# Altium integrated library Maxim Analog Filters.IntLib: 555 symbols (part 3 of 26)
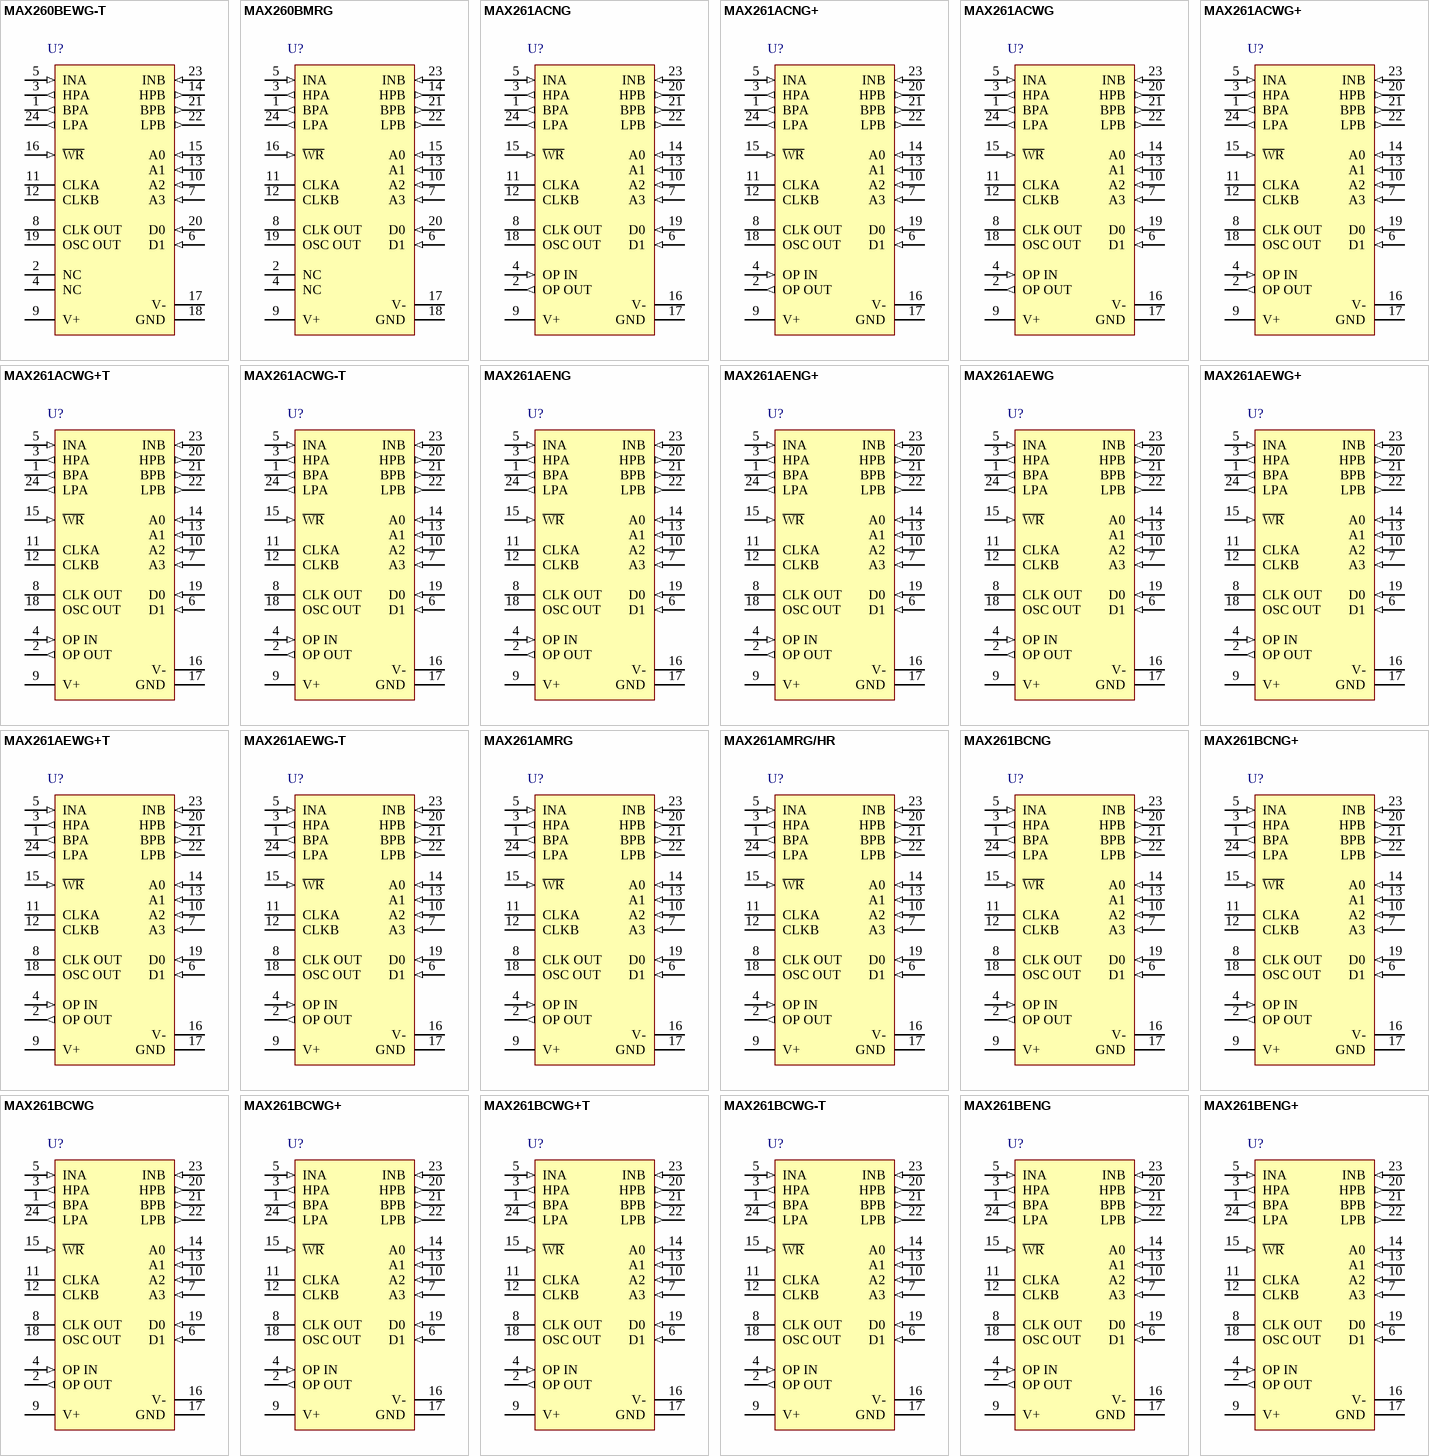
[diagram p19: symbols MAX260BEWG-T to MAX261BENG+]

## MAX261AMRG
designator U?
Universal Switched Capacitor Filter, uP Bus Programmable, -55 to 125 degC, 24-Pin DIP (R24-4); Generic Part Number: MAX261; PartNumber: MAX261AMRG; Filter Sections: 2; Program Method: uP Bus; DatasheetVersion: Rev. 2; PackageVersion: Rev. B, 05/2011; PackageReference: R24-4; PackageDescription: 24-Pin Ceramic Dual-In-Line, Narrow (0.3in) (R24-4), Body 32.51 x 6.73 mm, Pitch 2.54 mm; Supplier 1: Mouser; Supplier Part Number 1: N/A; Filter Characteristic: Programmable; Filter Class: Switched Cap; Filter Type: Universal; Order Per Filter Section: 2; Mounting Technology: Through Hole; ComponentLink1Description: Manufacturer URL; ComponentLink1URL: http://www.maximintegrated.com/; ComponentLink2Description: Datasheet; ComponentLink2URL: http://datasheets.maximintegrated.com/en/ds/MAX260-MAX262.pdf; ComponentLink3Description: Package Specification; ComponentLink3URL: http://pdfserv.maximintegrated.com/package_dwgs/21-0045.PDF
footprint MAXM-R24-4 (DIP, 24-Leads, Body 32.51x6.73mm, Pitch 2.54mm)
pins: 1 BPA (out) "Bandpass output", 2 OP OUT (out) "Output of uncommitted op amp on MAX261/MAX262 only. Pin 2 is anoconnect on the MAX260", 3 HPA (out) "Highpass/notch/allpass output", 4 OP IN (in) "Inverting input of uncommitted op amp on MAX261/MAX262 only (noninverting input is internally connected to ground). Pin4 is anoconnect on the MAX260", 5 INA (in) "Filter input", 6 D1 (in) "Data input for f0 and Q programming", 7 A3 (in) "Address input for f0 and Q input data locations", 8 CLK OUT "Clock output for crystal and R-C oscillator operation", 9 V+ (power) "Positive supply voltage", 10 A2 (in) "Address input for f0 and Q input data locations", 11 CLKA "Input to the oscillator and clock input to section A. This clock is internally divided by 2.", 12 CLKB "Clock input to filter B. This clock is internally divided by 2.", 13 A1 (in) "Address input for f0 and Q input data locations", 14 A0 (in) "Address input for f0 and Q input data locations", 15 ~{WR} (in) "Write enable input", 16 V- (power) "Negative supply voltage", 17 GND (power) "Analog Ground. Connect to the system ground for dual supply operation or mid-supply for single supply operation. GND should be well bypassed in single supply applications.", 18 OSC OUT "Connects to crystal or R-C for self-clocked operation", 19 D0 (in) "Data input for f0 and Q programming", 20 HPB (out) "Highpass/notch/allpass output", 21 BPB (out) "Bandpass output", 22 LPB (out) "Lowpass output", 23 INB (in) "Filter input", 24 LPA (out) "Lowpass output"

## MAX261AMRG/HR
designator U?
Universal Switched Capacitor Filter, uP Bus Programmable, -55 to 125 degC, 24-Pin DIP (R24-4); Generic Part Number: MAX261; PartNumber: MAX261AMRG/HR; Filter Sections: 2; Program Method: uP Bus; DatasheetVersion: Rev. 2; PackageVersion: Rev. B, 05/2011; PackageReference: R24-4; PackageDescription: 24-Pin Ceramic Dual-In-Line, Narrow (0.3in) (R24-4), Body 32.51 x 6.73 mm, Pitch 2.54 mm; Supplier 1: Mouser; Supplier Part Number 1: N/A; Filter Characteristic: Programmable; Filter Class: Switched Cap; Filter Type: Universal; Order Per Filter Section: 2; Mounting Technology: Through Hole; ComponentLink1Description: Manufacturer URL; ComponentLink1URL: http://www.maximintegrated.com/; ComponentLink2Description: Datasheet; ComponentLink2URL: http://datasheets.maximintegrated.com/en/ds/MAX260-MAX262.pdf; ComponentLink3Description: Package Specification; ComponentLink3URL: http://pdfserv.maximintegrated.com/package_dwgs/21-0045.PDF
footprint MAXM-R24-4 (DIP, 24-Leads, Body 32.51x6.73mm, Pitch 2.54mm)
pins: 1 BPA (out) "Bandpass output", 2 OP OUT (out) "Output of uncommitted op amp on MAX261/MAX262 only. Pin 2 is anoconnect on the MAX260", 3 HPA (out) "Highpass/notch/allpass output", 4 OP IN (in) "Inverting input of uncommitted op amp on MAX261/MAX262 only (noninverting input is internally connected to ground). Pin4 is anoconnect on the MAX260", 5 INA (in) "Filter input", 6 D1 (in) "Data input for f0 and Q programming", 7 A3 (in) "Address input for f0 and Q input data locations", 8 CLK OUT "Clock output for crystal and R-C oscillator operation", 9 V+ (power) "Positive supply voltage", 10 A2 (in) "Address input for f0 and Q input data locations", 11 CLKA "Input to the oscillator and clock input to section A. This clock is internally divided by 2.", 12 CLKB "Clock input to filter B. This clock is internally divided by 2.", 13 A1 (in) "Address input for f0 and Q input data locations", 14 A0 (in) "Address input for f0 and Q input data locations", 15 ~{WR} (in) "Write enable input", 16 V- (power) "Negative supply voltage", 17 GND (power) "Analog Ground. Connect to the system ground for dual supply operation or mid-supply for single supply operation. GND should be well bypassed in single supply applications.", 18 OSC OUT "Connects to crystal or R-C for self-clocked operation", 19 D0 (in) "Data input for f0 and Q programming", 20 HPB (out) "Highpass/notch/allpass output", 21 BPB (out) "Bandpass output", 22 LPB (out) "Lowpass output", 23 INB (in) "Filter input", 24 LPA (out) "Lowpass output"

## MAX261BCNG
designator U?
Universal Switched Capacitor Filter, uP Bus Programmable, 0 to 70 degC, 24-Pin DIP (N24-4); Generic Part Number: MAX261; PartNumber: MAX261BCNG; Filter Sections: 2; Program Method: uP Bus; DatasheetVersion: Rev. 2; PackageVersion: Rev. E, 04/2011; PackageReference: N24-4; PackageDescription: 24-Pin Plastic Dual-In-Line, Narrow (0.3in) (N24-4), Body 30.545 x 6.895 mm, Pitch 2.54 mm; Supplier 1: Mouser; Supplier Part Number 1: N/A; Filter Characteristic: Programmable; Filter Class: Switched Cap; Filter Type: Universal; Order Per Filter Section: 2; Mounting Technology: Through Hole; Code_JEDEC: MS001-XX; ComponentLink1Description: Manufacturer URL; ComponentLink1URL: http://www.maximintegrated.com/; ComponentLink2Description: Datasheet; ComponentLink2URL: http://datasheets.maximintegrated.com/en/ds/MAX260-MAX262.pdf; ComponentLink3Description: Package Specification; ComponentLink3URL: http://pdfserv.maximintegrated.com/package_dwgs/21-0043.PDF
footprint MAXM-N24-4 (DIP, 24-Leads, Body 30.545x6.985mm, Pitch 2.54mm)
pins: 1 BPA (out) "Bandpass output", 2 OP OUT (out) "Output of uncommitted op amp on MAX261/MAX262 only. Pin 2 is anoconnect on the MAX260", 3 HPA (out) "Highpass/notch/allpass output", 4 OP IN (in) "Inverting input of uncommitted op amp on MAX261/MAX262 only (noninverting input is internally connected to ground). Pin4 is anoconnect on the MAX260", 5 INA (in) "Filter input", 6 D1 (in) "Data input for f0 and Q programming", 7 A3 (in) "Address input for f0 and Q input data locations", 8 CLK OUT "Clock output for crystal and R-C oscillator operation", 9 V+ (power) "Positive supply voltage", 10 A2 (in) "Address input for f0 and Q input data locations", 11 CLKA "Input to the oscillator and clock input to section A. This clock is internally divided by 2.", 12 CLKB "Clock input to filter B. This clock is internally divided by 2.", 13 A1 (in) "Address input for f0 and Q input data locations", 14 A0 (in) "Address input for f0 and Q input data locations", 15 ~{WR} (in) "Write enable input", 16 V- (power) "Negative supply voltage", 17 GND (power) "Analog Ground. Connect to the system ground for dual supply operation or mid-supply for single supply operation. GND should be well bypassed in single supply applications.", 18 OSC OUT "Connects to crystal or R-C for self-clocked operation", 19 D0 (in) "Data input for f0 and Q programming", 20 HPB (out) "Highpass/notch/allpass output", 21 BPB (out) "Bandpass output", 22 LPB (out) "Lowpass output", 23 INB (in) "Filter input", 24 LPA (out) "Lowpass output"

## MAX261BCNG+
designator U?
Universal Switched Capacitor Filter, uP Bus Programmable, 0 to 70 degC, 24-Pin DIP (N24+4), Pb-Free; Generic Part Number: MAX261; PartNumber: MAX261BCNG+; Filter Sections: 2; Program Method: uP Bus; DatasheetVersion: Rev. 2; PackageVersion: Rev. E, 04/2011; PackageReference: N24+4; PackageDescription: 24-Pin Plastic Dual-In-Line, Narrow (0.3in) (N24+4), Body 30.545 x 6.985 mm, Pitch 2.54 mm; Supplier 1: Digi-Key; Supplier Part Number 1: MAX261BCNG+-ND; Supplier 2: Mouser; Supplier Part Number 2: 700-MAX261BCNG; Filter Characteristic: Programmable; Filter Class: Switched Cap; Filter Type: Universal; Order Per Filter Section: 2; RoHS: Pb-Free; Mounting Technology: Through Hole; Code_JEDEC: MS001-XX; ComponentLink1Description: Manufacturer URL; ComponentLink1URL: http://www.maximintegrated.com/; ComponentLink2Description: Datasheet; ComponentLink2URL: http://datasheets.maximintegrated.com/en/ds/MAX260-MAX262.pdf; ComponentLink3Description: Package Specification; ComponentLink3URL: http://pdfserv.maximintegrated.com/package_dwgs/21-0043.PDF
footprint MAXM-N24+4 (DIP, 24-Leads, Body 30.545x6.985mm, Pitch 2.54mm)
pins: 1 BPA (out) "Bandpass output", 2 OP OUT (out) "Output of uncommitted op amp on MAX261/MAX262 only. Pin 2 is anoconnect on the MAX260", 3 HPA (out) "Highpass/notch/allpass output", 4 OP IN (in) "Inverting input of uncommitted op amp on MAX261/MAX262 only (noninverting input is internally connected to ground). Pin4 is anoconnect on the MAX260", 5 INA (in) "Filter input", 6 D1 (in) "Data input for f0 and Q programming", 7 A3 (in) "Address input for f0 and Q input data locations", 8 CLK OUT "Clock output for crystal and R-C oscillator operation", 9 V+ (power) "Positive supply voltage", 10 A2 (in) "Address input for f0 and Q input data locations", 11 CLKA "Input to the oscillator and clock input to section A. This clock is internally divided by 2.", 12 CLKB "Clock input to filter B. This clock is internally divided by 2.", 13 A1 (in) "Address input for f0 and Q input data locations", 14 A0 (in) "Address input for f0 and Q input data locations", 15 ~{WR} (in) "Write enable input", 16 V- (power) "Negative supply voltage", 17 GND (power) "Analog Ground. Connect to the system ground for dual supply operation or mid-supply for single supply operation. GND should be well bypassed in single supply applications.", 18 OSC OUT "Connects to crystal or R-C for self-clocked operation", 19 D0 (in) "Data input for f0 and Q programming", 20 HPB (out) "Highpass/notch/allpass output", 21 BPB (out) "Bandpass output", 22 LPB (out) "Lowpass output", 23 INB (in) "Filter input", 24 LPA (out) "Lowpass output"

## MAX261BCWG
designator U?
Universal Switched Capacitor Filter, uP Bus Programmable, 0 to 70 degC, 24-Pin SOIC (W24-3); Generic Part Number: MAX261; PartNumber: MAX261BCWG; Filter Sections: 2; Program Method: uP Bus; DatasheetVersion: Rev. 2; PackageVersion: Rev. F, 10/2012; PackageReference: W24-3; PackageDescription: 24-Pin Small-Outline IC, Wide (0.3in) (W24-3), Body 15.4 x 7.5 mm, Pitch 1.27 mm; Supplier 1: Mouser; Supplier Part Number 1: N/A; Filter Characteristic: Programmable; Filter Class: Switched Cap; Filter Type: Universal; Order Per Filter Section: 2; Mounting Technology: Surface Mount; Code_JEDEC: MS013; ComponentLink1Description: Manufacturer URL; ComponentLink1URL: http://www.maximintegrated.com/; ComponentLink2Description: Datasheet; ComponentLink2URL: http://datasheets.maximintegrated.com/en/ds/MAX260-MAX262.pdf; ComponentLink3Description: Package Specification; ComponentLink3URL: http://pdfserv.maximintegrated.com/package_dwgs/21-0042.PDF
footprint MAXM-W24-3_N (SOIC, 24-Leads, Body 15.4x7.5mm, Pitch 1.27mm, IPC Medium Density)
footprint MAXM-W24-3_L (SOIC, 24-Leads, Body 15.4x7.5mm, Pitch 1.27mm, IPC High Density)
footprint MAXM-W24-3_M (SOIC, 24-Leads, Body 15.4x7.5mm, Pitch 1.27mm, IPC Low Density)
pins: 1 BPA (out) "Bandpass output", 2 OP OUT (out) "Output of uncommitted op amp on MAX261/MAX262 only. Pin 2 is anoconnect on the MAX260", 3 HPA (out) "Highpass/notch/allpass output", 4 OP IN (in) "Inverting input of uncommitted op amp on MAX261/MAX262 only (noninverting input is internally connected to ground). Pin4 is anoconnect on the MAX260", 5 INA (in) "Filter input", 6 D1 (in) "Data input for f0 and Q programming", 7 A3 (in) "Address input for f0 and Q input data locations", 8 CLK OUT "Clock output for crystal and R-C oscillator operation", 9 V+ (power) "Positive supply voltage", 10 A2 (in) "Address input for f0 and Q input data locations", 11 CLKA "Input to the oscillator and clock input to section A. This clock is internally divided by 2.", 12 CLKB "Clock input to filter B. This clock is internally divided by 2.", 13 A1 (in) "Address input for f0 and Q input data locations", 14 A0 (in) "Address input for f0 and Q input data locations", 15 ~{WR} (in) "Write enable input", 16 V- (power) "Negative supply voltage", 17 GND (power) "Analog Ground. Connect to the system ground for dual supply operation or mid-supply for single supply operation. GND should be well bypassed in single supply applications.", 18 OSC OUT "Connects to crystal or R-C for self-clocked operation", 19 D0 (in) "Data input for f0 and Q programming", 20 HPB (out) "Highpass/notch/allpass output", 21 BPB (out) "Bandpass output", 22 LPB (out) "Lowpass output", 23 INB (in) "Filter input", 24 LPA (out) "Lowpass output"

## MAX261BCWG+
designator U?
Universal Switched Capacitor Filter, uP Bus Programmable, 0 to 70 degC, 24-Pin SOIC (W24+3), Pb-Free; Generic Part Number: MAX261; PartNumber: MAX261BCWG+; Filter Sections: 2; Program Method: uP Bus; DatasheetVersion: Rev. 2; PackageVersion: Rev. F, 10/2012; PackageReference: W24+3; PackageDescription: 24-Pin Small-Outline IC, Wide (0.3in) (W24+3), Body 15.4 x 7.5 mm, Pitch 1.27 mm; Supplier 1: Digi-Key; Supplier Part Number 1: MAX261BCWG+-ND; Supplier 2: Mouser; Supplier Part Number 2: 700-MAX261BCWG; Filter Characteristic: Programmable; Filter Class: Switched Cap; Filter Type: Universal; Order Per Filter Section: 2; RoHS: Pb-Free; Mounting Technology: Surface Mount; Code_JEDEC: MS013; ComponentLink1Description: Manufacturer URL; ComponentLink1URL: http://www.maximintegrated.com/; ComponentLink2Description: Datasheet; ComponentLink2URL: http://datasheets.maximintegrated.com/en/ds/MAX260-MAX262.pdf; ComponentLink3Description: Package Specification; ComponentLink3URL: http://pdfserv.maximintegrated.com/package_dwgs/21-0042.PDF
footprint MAXM-W24+3_N (SOIC, 24-Leads, Body 15.4x7.5mm, Pitch 1.27mm, IPC Medium Density)
footprint MAXM-W24+3_L (SOIC, 24-Leads, Body 15.4x7.5mm, Pitch 1.27mm, IPC High Density)
footprint MAXM-W24+3_M (SOIC, 24-Leads, Body 15.4x7.5mm, Pitch 1.27mm, IPC Low Density)
pins: 1 BPA (out) "Bandpass output", 2 OP OUT (out) "Output of uncommitted op amp on MAX261/MAX262 only. Pin 2 is anoconnect on the MAX260", 3 HPA (out) "Highpass/notch/allpass output", 4 OP IN (in) "Inverting input of uncommitted op amp on MAX261/MAX262 only (noninverting input is internally connected to ground). Pin4 is anoconnect on the MAX260", 5 INA (in) "Filter input", 6 D1 (in) "Data input for f0 and Q programming", 7 A3 (in) "Address input for f0 and Q input data locations", 8 CLK OUT "Clock output for crystal and R-C oscillator operation", 9 V+ (power) "Positive supply voltage", 10 A2 (in) "Address input for f0 and Q input data locations", 11 CLKA "Input to the oscillator and clock input to section A. This clock is internally divided by 2.", 12 CLKB "Clock input to filter B. This clock is internally divided by 2.", 13 A1 (in) "Address input for f0 and Q input data locations", 14 A0 (in) "Address input for f0 and Q input data locations", 15 ~{WR} (in) "Write enable input", 16 V- (power) "Negative supply voltage", 17 GND (power) "Analog Ground. Connect to the system ground for dual supply operation or mid-supply for single supply operation. GND should be well bypassed in single supply applications.", 18 OSC OUT "Connects to crystal or R-C for self-clocked operation", 19 D0 (in) "Data input for f0 and Q programming", 20 HPB (out) "Highpass/notch/allpass output", 21 BPB (out) "Bandpass output", 22 LPB (out) "Lowpass output", 23 INB (in) "Filter input", 24 LPA (out) "Lowpass output"

## MAX261BCWG+T
designator U?
Universal Switched Capacitor Filter, uP Bus Programmable, 0 to 70 degC, 24-Pin SOIC (W24+3), Pb-Free, Tape and Reel; Generic Part Number: MAX261; PartNumber: MAX261BCWG+T; Filter Sections: 2; Program Method: uP Bus; DatasheetVersion: Rev. 2; PackageVersion: Rev. F, 10/2012; PackageReference: W24+3; PackageDescription: 24-Pin Small-Outline IC, Wide (0.3in) (W24+3), Body 15.4 x 7.5 mm, Pitch 1.27 mm; Supplier 1: Digi-Key; Supplier Part Number 1: MAX261BCWG+T-ND; Supplier 2: Mouser; Supplier Part Number 2: 700-MAX261BCWGT; Filter Characteristic: Programmable; Filter Class: Switched Cap; Filter Type: Universal; Order Per Filter Section: 2; Packing: Tape and Reel; RoHS: Pb-Free; Mounting Technology: Surface Mount; Code_JEDEC: MS013; ComponentLink1Description: Manufacturer URL; ComponentLink1URL: http://www.maximintegrated.com/; ComponentLink2Description: Datasheet; ComponentLink2URL: http://datasheets.maximintegrated.com/en/ds/MAX260-MAX262.pdf; ComponentLink3Description: Package Specification; ComponentLink3URL: http://pdfserv.maximintegrated.com/package_dwgs/21-0042.PDF
footprint MAXM-W24+3_N (SOIC, 24-Leads, Body 15.4x7.5mm, Pitch 1.27mm, IPC Medium Density)
footprint MAXM-W24+3_L (SOIC, 24-Leads, Body 15.4x7.5mm, Pitch 1.27mm, IPC High Density)
footprint MAXM-W24+3_M (SOIC, 24-Leads, Body 15.4x7.5mm, Pitch 1.27mm, IPC Low Density)
pins: 1 BPA (out) "Bandpass output", 2 OP OUT (out) "Output of uncommitted op amp on MAX261/MAX262 only. Pin 2 is anoconnect on the MAX260", 3 HPA (out) "Highpass/notch/allpass output", 4 OP IN (in) "Inverting input of uncommitted op amp on MAX261/MAX262 only (noninverting input is internally connected to ground). Pin4 is anoconnect on the MAX260", 5 INA (in) "Filter input", 6 D1 (in) "Data input for f0 and Q programming", 7 A3 (in) "Address input for f0 and Q input data locations", 8 CLK OUT "Clock output for crystal and R-C oscillator operation", 9 V+ (power) "Positive supply voltage", 10 A2 (in) "Address input for f0 and Q input data locations", 11 CLKA "Input to the oscillator and clock input to section A. This clock is internally divided by 2.", 12 CLKB "Clock input to filter B. This clock is internally divided by 2.", 13 A1 (in) "Address input for f0 and Q input data locations", 14 A0 (in) "Address input for f0 and Q input data locations", 15 ~{WR} (in) "Write enable input", 16 V- (power) "Negative supply voltage", 17 GND (power) "Analog Ground. Connect to the system ground for dual supply operation or mid-supply for single supply operation. GND should be well bypassed in single supply applications.", 18 OSC OUT "Connects to crystal or R-C for self-clocked operation", 19 D0 (in) "Data input for f0 and Q programming", 20 HPB (out) "Highpass/notch/allpass output", 21 BPB (out) "Bandpass output", 22 LPB (out) "Lowpass output", 23 INB (in) "Filter input", 24 LPA (out) "Lowpass output"

## MAX261BCWG-T
designator U?
Universal Switched Capacitor Filter, uP Bus Programmable, 0 to 70 degC, 24-Pin SOIC (W24-3), Tape and Reel; Generic Part Number: MAX261; PartNumber: MAX261BCWG-T; Filter Sections: 2; Program Method: uP Bus; DatasheetVersion: Rev. 2; PackageVersion: Rev. F, 10/2012; PackageReference: W24-3; PackageDescription: 24-Pin Small-Outline IC, Wide (0.3in) (W24-3), Body 15.4 x 7.5 mm, Pitch 1.27 mm; Supplier 1: Mouser; Supplier Part Number 1: N/A; Filter Characteristic: Programmable; Filter Class: Switched Cap; Filter Type: Universal; Order Per Filter Section: 2; Packing: Tape and Reel; Mounting Technology: Surface Mount; Code_JEDEC: MS013; ComponentLink1Description: Manufacturer URL; ComponentLink1URL: http://www.maximintegrated.com/; ComponentLink2Description: Datasheet; ComponentLink2URL: http://datasheets.maximintegrated.com/en/ds/MAX260-MAX262.pdf; ComponentLink3Description: Package Specification; ComponentLink3URL: http://pdfserv.maximintegrated.com/package_dwgs/21-0042.PDF
footprint MAXM-W24-3_N (SOIC, 24-Leads, Body 15.4x7.5mm, Pitch 1.27mm, IPC Medium Density)
footprint MAXM-W24-3_L (SOIC, 24-Leads, Body 15.4x7.5mm, Pitch 1.27mm, IPC High Density)
footprint MAXM-W24-3_M (SOIC, 24-Leads, Body 15.4x7.5mm, Pitch 1.27mm, IPC Low Density)
pins: 1 BPA (out) "Bandpass output", 2 OP OUT (out) "Output of uncommitted op amp on MAX261/MAX262 only. Pin 2 is anoconnect on the MAX260", 3 HPA (out) "Highpass/notch/allpass output", 4 OP IN (in) "Inverting input of uncommitted op amp on MAX261/MAX262 only (noninverting input is internally connected to ground). Pin4 is anoconnect on the MAX260", 5 INA (in) "Filter input", 6 D1 (in) "Data input for f0 and Q programming", 7 A3 (in) "Address input for f0 and Q input data locations", 8 CLK OUT "Clock output for crystal and R-C oscillator operation", 9 V+ (power) "Positive supply voltage", 10 A2 (in) "Address input for f0 and Q input data locations", 11 CLKA "Input to the oscillator and clock input to section A. This clock is internally divided by 2.", 12 CLKB "Clock input to filter B. This clock is internally divided by 2.", 13 A1 (in) "Address input for f0 and Q input data locations", 14 A0 (in) "Address input for f0 and Q input data locations", 15 ~{WR} (in) "Write enable input", 16 V- (power) "Negative supply voltage", 17 GND (power) "Analog Ground. Connect to the system ground for dual supply operation or mid-supply for single supply operation. GND should be well bypassed in single supply applications.", 18 OSC OUT "Connects to crystal or R-C for self-clocked operation", 19 D0 (in) "Data input for f0 and Q programming", 20 HPB (out) "Highpass/notch/allpass output", 21 BPB (out) "Bandpass output", 22 LPB (out) "Lowpass output", 23 INB (in) "Filter input", 24 LPA (out) "Lowpass output"

## MAX261BENG
designator U?
Universal Switched Capacitor Filter, uP Bus Programmable, -40 to 85 degC, 24-Pin DIP (N24-4); Generic Part Number: MAX261; PartNumber: MAX261BENG; Filter Sections: 2; Program Method: uP Bus; DatasheetVersion: Rev. 2; PackageVersion: Rev. E, 04/2011; PackageReference: N24-4; PackageDescription: 24-Pin Plastic Dual-In-Line, Narrow (0.3in) (N24-4), Body 30.545 x 6.895 mm, Pitch 2.54 mm; Supplier 1: Mouser; Supplier Part Number 1: N/A; Filter Characteristic: Programmable; Filter Class: Switched Cap; Filter Type: Universal; Order Per Filter Section: 2; Mounting Technology: Through Hole; Code_JEDEC: MS001-XX; ComponentLink1Description: Manufacturer URL; ComponentLink1URL: http://www.maximintegrated.com/; ComponentLink2Description: Datasheet; ComponentLink2URL: http://datasheets.maximintegrated.com/en/ds/MAX260-MAX262.pdf; ComponentLink3Description: Package Specification; ComponentLink3URL: http://pdfserv.maximintegrated.com/package_dwgs/21-0043.PDF
footprint MAXM-N24-4 (DIP, 24-Leads, Body 30.545x6.985mm, Pitch 2.54mm)
pins: 1 BPA (out) "Bandpass output", 2 OP OUT (out) "Output of uncommitted op amp on MAX261/MAX262 only. Pin 2 is anoconnect on the MAX260", 3 HPA (out) "Highpass/notch/allpass output", 4 OP IN (in) "Inverting input of uncommitted op amp on MAX261/MAX262 only (noninverting input is internally connected to ground). Pin4 is anoconnect on the MAX260", 5 INA (in) "Filter input", 6 D1 (in) "Data input for f0 and Q programming", 7 A3 (in) "Address input for f0 and Q input data locations", 8 CLK OUT "Clock output for crystal and R-C oscillator operation", 9 V+ (power) "Positive supply voltage", 10 A2 (in) "Address input for f0 and Q input data locations", 11 CLKA "Input to the oscillator and clock input to section A. This clock is internally divided by 2.", 12 CLKB "Clock input to filter B. This clock is internally divided by 2.", 13 A1 (in) "Address input for f0 and Q input data locations", 14 A0 (in) "Address input for f0 and Q input data locations", 15 ~{WR} (in) "Write enable input", 16 V- (power) "Negative supply voltage", 17 GND (power) "Analog Ground. Connect to the system ground for dual supply operation or mid-supply for single supply operation. GND should be well bypassed in single supply applications.", 18 OSC OUT "Connects to crystal or R-C for self-clocked operation", 19 D0 (in) "Data input for f0 and Q programming", 20 HPB (out) "Highpass/notch/allpass output", 21 BPB (out) "Bandpass output", 22 LPB (out) "Lowpass output", 23 INB (in) "Filter input", 24 LPA (out) "Lowpass output"

## MAX261BENG+
designator U?
Universal Switched Capacitor Filter, uP Bus Programmable, -40 to 85 degC, 24-Pin DIP (N24+4), Pb-Free; Generic Part Number: MAX261; PartNumber: MAX261BENG+; Filter Sections: 2; Program Method: uP Bus; DatasheetVersion: Rev. 2; PackageVersion: Rev. E, 04/2011; PackageReference: N24+4; PackageDescription: 24-Pin Plastic Dual-In-Line, Narrow (0.3in) (N24+4), Body 30.545 x 6.985 mm, Pitch 2.54 mm; Supplier 1: Digi-Key; Supplier Part Number 1: MAX261BENG+-ND; Supplier 2: Mouser; Supplier Part Number 2: 700-MAX261BENG; Filter Characteristic: Programmable; Filter Class: Switched Cap; Filter Type: Universal; Order Per Filter Section: 2; RoHS: Pb-Free; Mounting Technology: Through Hole; Code_JEDEC: MS001-XX; ComponentLink1Description: Manufacturer URL; ComponentLink1URL: http://www.maximintegrated.com/; ComponentLink2Description: Datasheet; ComponentLink2URL: http://datasheets.maximintegrated.com/en/ds/MAX260-MAX262.pdf; ComponentLink3Description: Package Specification; ComponentLink3URL: http://pdfserv.maximintegrated.com/package_dwgs/21-0043.PDF
footprint MAXM-N24+4 (DIP, 24-Leads, Body 30.545x6.985mm, Pitch 2.54mm)
pins: 1 BPA (out) "Bandpass output", 2 OP OUT (out) "Output of uncommitted op amp on MAX261/MAX262 only. Pin 2 is anoconnect on the MAX260", 3 HPA (out) "Highpass/notch/allpass output", 4 OP IN (in) "Inverting input of uncommitted op amp on MAX261/MAX262 only (noninverting input is internally connected to ground). Pin4 is anoconnect on the MAX260", 5 INA (in) "Filter input", 6 D1 (in) "Data input for f0 and Q programming", 7 A3 (in) "Address input for f0 and Q input data locations", 8 CLK OUT "Clock output for crystal and R-C oscillator operation", 9 V+ (power) "Positive supply voltage", 10 A2 (in) "Address input for f0 and Q input data locations", 11 CLKA "Input to the oscillator and clock input to section A. This clock is internally divided by 2.", 12 CLKB "Clock input to filter B. This clock is internally divided by 2.", 13 A1 (in) "Address input for f0 and Q input data locations", 14 A0 (in) "Address input for f0 and Q input data locations", 15 ~{WR} (in) "Write enable input", 16 V- (power) "Negative supply voltage", 17 GND (power) "Analog Ground. Connect to the system ground for dual supply operation or mid-supply for single supply operation. GND should be well bypassed in single supply applications.", 18 OSC OUT "Connects to crystal or R-C for self-clocked operation", 19 D0 (in) "Data input for f0 and Q programming", 20 HPB (out) "Highpass/notch/allpass output", 21 BPB (out) "Bandpass output", 22 LPB (out) "Lowpass output", 23 INB (in) "Filter input", 24 LPA (out) "Lowpass output"

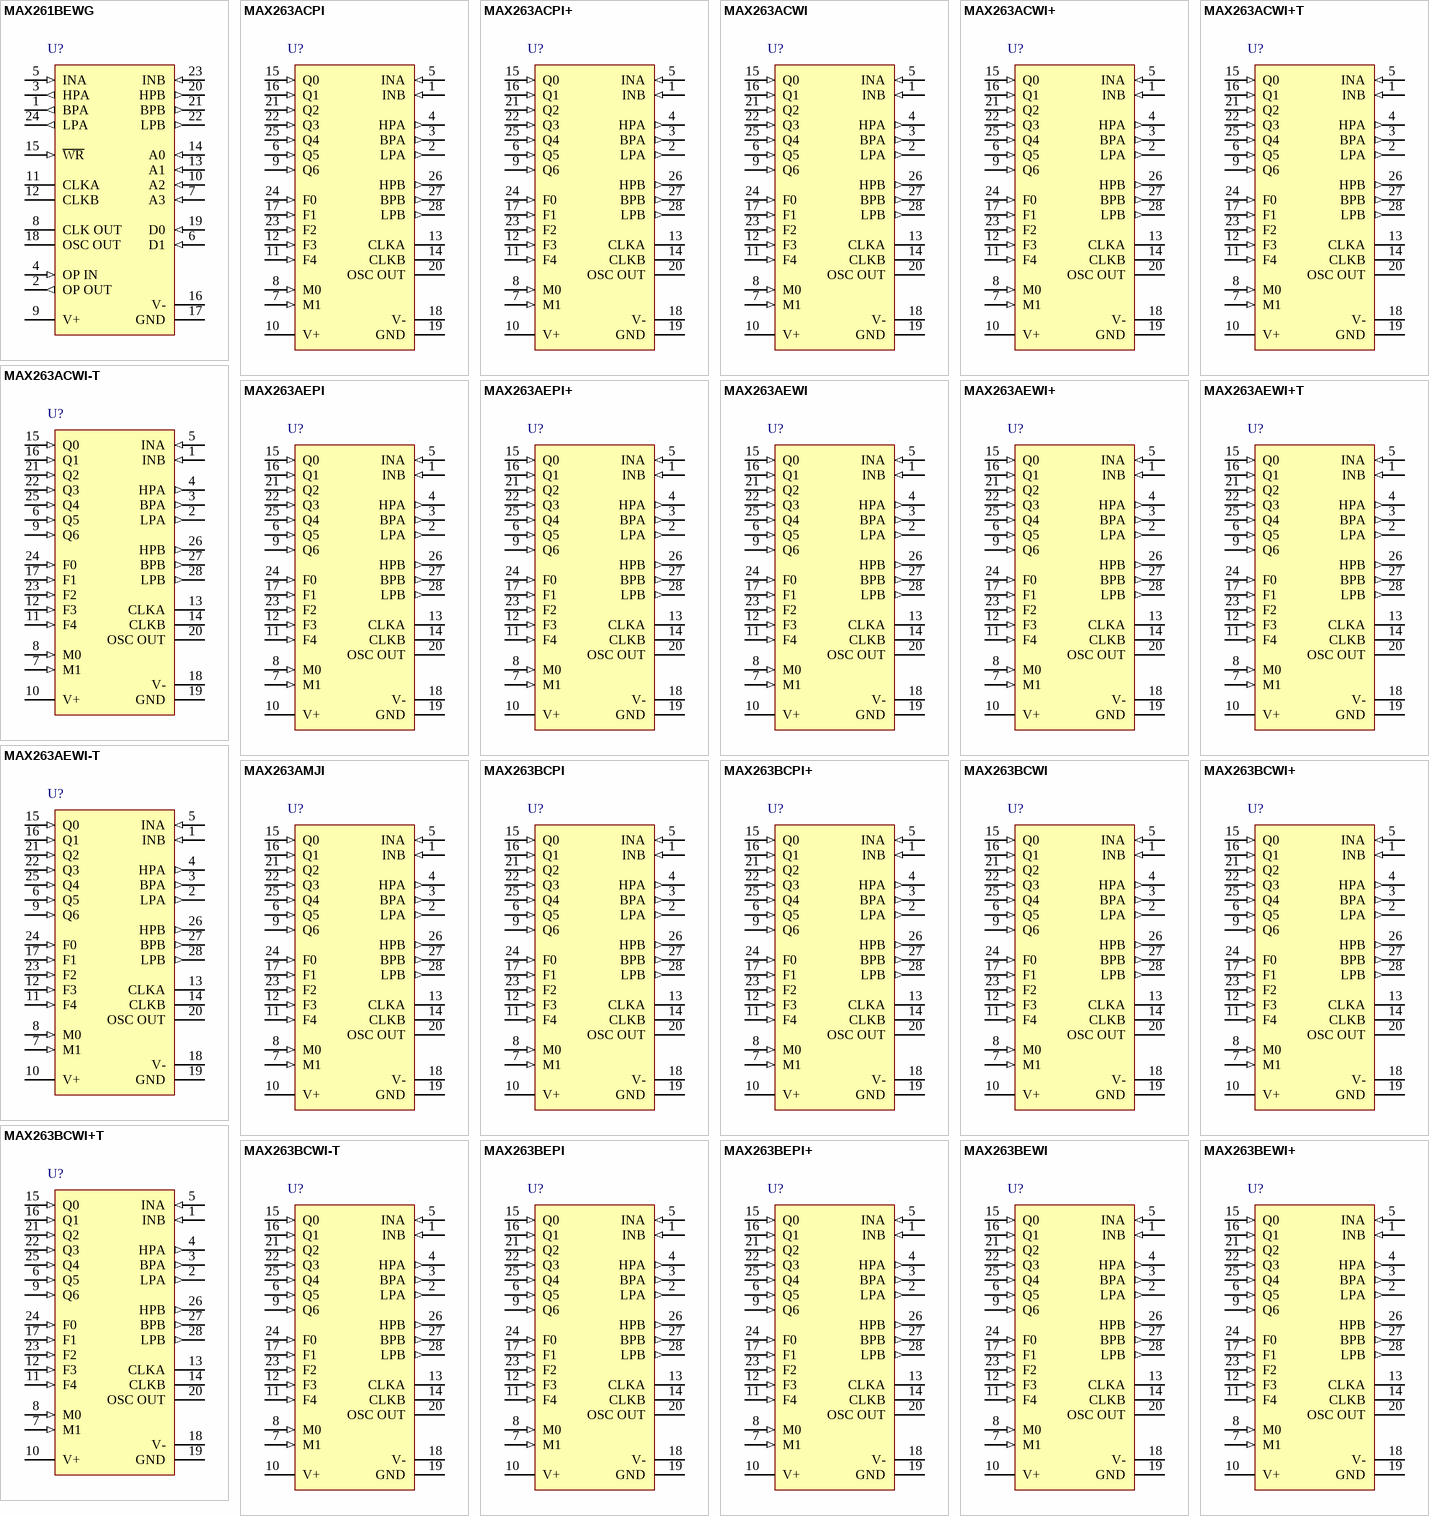
[diagram p2: symbols MAX261BEWG to MAX263BEWI+]

## MAX261BEWG
designator U?
Universal Switched Capacitor Filter, uP Bus Programmable, -40 to 85 degC, 24-Pin SOIC (W24-3); Generic Part Number: MAX261; PartNumber: MAX261BEWG; Filter Sections: 2; Program Method: uP Bus; DatasheetVersion: Rev. 2; PackageVersion: Rev. F, 10/2012; PackageReference: W24-3; PackageDescription: 24-Pin Small-Outline IC, Wide (0.3in) (W24-3), Body 15.4 x 7.5 mm, Pitch 1.27 mm; Supplier 1: Mouser; Supplier Part Number 1: N/A; Filter Characteristic: Programmable; Filter Class: Switched Cap; Filter Type: Universal; Order Per Filter Section: 2; Mounting Technology: Surface Mount; Code_JEDEC: MS013; ComponentLink1Description: Manufacturer URL; ComponentLink1URL: http://www.maximintegrated.com/; ComponentLink2Description: Datasheet; ComponentLink2URL: http://datasheets.maximintegrated.com/en/ds/MAX260-MAX262.pdf; ComponentLink3Description: Package Specification; ComponentLink3URL: http://pdfserv.maximintegrated.com/package_dwgs/21-0042.PDF
footprint MAXM-W24-3_N (SOIC, 24-Leads, Body 15.4x7.5mm, Pitch 1.27mm, IPC Medium Density)
footprint MAXM-W24-3_L (SOIC, 24-Leads, Body 15.4x7.5mm, Pitch 1.27mm, IPC High Density)
footprint MAXM-W24-3_M (SOIC, 24-Leads, Body 15.4x7.5mm, Pitch 1.27mm, IPC Low Density)
pins: 1 BPA (out) "Bandpass output", 2 OP OUT (out) "Output of uncommitted op amp on MAX261/MAX262 only. Pin 2 is anoconnect on the MAX260", 3 HPA (out) "Highpass/notch/allpass output", 4 OP IN (in) "Inverting input of uncommitted op amp on MAX261/MAX262 only (noninverting input is internally connected to ground). Pin4 is anoconnect on the MAX260", 5 INA (in) "Filter input", 6 D1 (in) "Data input for f0 and Q programming", 7 A3 (in) "Address input for f0 and Q input data locations", 8 CLK OUT "Clock output for crystal and R-C oscillator operation", 9 V+ (power) "Positive supply voltage", 10 A2 (in) "Address input for f0 and Q input data locations", 11 CLKA "Input to the oscillator and clock input to section A. This clock is internally divided by 2.", 12 CLKB "Clock input to filter B. This clock is internally divided by 2.", 13 A1 (in) "Address input for f0 and Q input data locations", 14 A0 (in) "Address input for f0 and Q input data locations", 15 ~{WR} (in) "Write enable input", 16 V- (power) "Negative supply voltage", 17 GND (power) "Analog Ground. Connect to the system ground for dual supply operation or mid-supply for single supply operation. GND should be well bypassed in single supply applications.", 18 OSC OUT "Connects to crystal or R-C for self-clocked operation", 19 D0 (in) "Data input for f0 and Q programming", 20 HPB (out) "Highpass/notch/allpass output", 21 BPB (out) "Bandpass output", 22 LPB (out) "Lowpass output", 23 INB (in) "Filter input", 24 LPA (out) "Lowpass output"

## MAX263ACPI
designator U?
Switched Capacitor Filter, Pin Strap Programmable, 0 to 70 degC, 28-Pin DIP (P28-5); Generic Part Number: MAX263; PartNumber: MAX263ACPI; Filter Sections: 2; Filter Type: Universal; DatasheetVersion: Rev. 4; PackageVersion: Rev. D, 04/2011; PackageReference: P28-5; PackageDescription: 28-Pin Plastic Dual-In-Line, Wide (0.6in) (P28-5), Body 36.83 x 13.975 mm, Pitch 2.54 mm; Filter Characteristic: Programmable; Filter Class: Switched Cap; Order Per Filter Section: 2; Program Method: Pin Strap; Mounting Technology: Through Hole; Code_JEDEC: MS011; ComponentLink1Description: Manufacturer URL; ComponentLink1URL: http://www.maximintegrated.com/; ComponentLink2Description: Datasheet; ComponentLink2URL: http://datasheets.maximintegrated.com/en/ds/MAX263-MAX268.pdf; ComponentLink3Description: Package Specification; ComponentLink3URL: http://pdfserv.maximintegrated.com/package_dwgs/21-0044.PDF
footprint MAXM-P28-5 (DIP, 28-Leads, Body 36.83x13.975mm, Pitch 2.54mm)
pins: 1 INB (in) "Filter inputs", 2 LPA (out) "Lowpass outputs", 3 BPA (out) "Bandpass outputs", 4 HPA (out) "Highpass/Notch/Allpass outputs", 5 INA (in) "Filter inputs", 6 Q5 (in) "Q programming inputs", 7 M1 (in) "Mode select inputs", 8 M0 (in) "Mode select inputs", 9 Q6 (in) "Q programming inputs", 10 V+ (power) "Positive supply voltage", 11 F4 (in) "Clock/center frequency ratio (fclk/fo) programming inputs", 12 F3 (in) "Clock/center frequency ratio (fclk/fo) programming inputs", 13 CLKA "Input to the oscillator and clock input to section A.This clock is internally divided by 2.", 14 CLKB "Clock input to filter B. This clock is internally divided by 2.", 15 Q0 (in) "Q programming inputs", 16 Q1 (in) "Q programming inputs", 17 F1 (in) "Clock/center frequency ratio (fclk/fo) programming inputs", 18 V- (power) "Negative supply voltage", 19 GND (power) "Analog Ground.Connect to the system ground for dual supply operation or mid-supply for single supply operation. Gnd should be well bypassed in single supply applications.", 20 OSC OUT "Connects to crystal for self clocked operation", 21 Q2 (in) "Q programming inputs", 22 Q3 (in) "Q programming inputs", 23 F2 (in) "Clock/center frequency ratio (fclk/fo) programming inputs", 24 F0 (in) "Clock/center frequency ratio (fclk/fo) programming inputs", 25 Q4 (in) "Q programming inputs", 26 HPB (out) "Highpass/Notch/Allpass outputs", 27 BPB (out) "Bandpass outputs", 28 LPB (out) "Lowpass outputs"

## MAX263ACPI+
designator U?
Switched Capacitor Filter, Pin Strap Programmable, 0 to 70 degC, 28-Pin DIP (P28+5), Pb-Free; Generic Part Number: MAX263; PartNumber: MAX263ACPI+; Filter Sections: 2; Filter Type: Universal; DatasheetVersion: Rev. 4; PackageVersion: Rev. D, 04/2011; PackageReference: P28+5; PackageDescription: 28-Pin Plastic Dual-In-Line, Wide (0.6in) (P28+5), Body 36.83 x 13.975 mm, Pitch 2.54 mm; Supplier 1: Mouser; Supplier Part Number 1: N/A; Filter Characteristic: Programmable; Filter Class: Switched Cap; Order Per Filter Section: 2; Program Method: Pin Strap; RoHS: Pb-Free; Mounting Technology: Through Hole; Code_JEDEC: MSO11; ComponentLink1Description: Manufacturer URL; ComponentLink1URL: http://www.maximintegrated.com/; ComponentLink2Description: Datasheet; ComponentLink2URL: http://datasheets.maximintegrated.com/en/ds/MAX263-MAX268.pdf; ComponentLink3Description: Package Specification; ComponentLink3URL: http://pdfserv.maximintegrated.com/package_dwgs/21-0044.PDF
footprint MAXM-P28+5 (DIP, 28-Leads, Body 36.83x13.975mm, Pitch 2.54mm)
pins: 1 INB (in) "Filter inputs", 2 LPA (out) "Lowpass outputs", 3 BPA (out) "Bandpass outputs", 4 HPA (out) "Highpass/Notch/Allpass outputs", 5 INA (in) "Filter inputs", 6 Q5 (in) "Q programming inputs", 7 M1 (in) "Mode select inputs", 8 M0 (in) "Mode select inputs", 9 Q6 (in) "Q programming inputs", 10 V+ (power) "Positive supply voltage", 11 F4 (in) "Clock/center frequency ratio (fclk/fo) programming inputs", 12 F3 (in) "Clock/center frequency ratio (fclk/fo) programming inputs", 13 CLKA "Input to the oscillator and clock input to section A.This clock is internally divided by 2.", 14 CLKB "Clock input to filter B. This clock is internally divided by 2.", 15 Q0 (in) "Q programming inputs", 16 Q1 (in) "Q programming inputs", 17 F1 (in) "Clock/center frequency ratio (fclk/fo) programming inputs", 18 V- (power) "Negative supply voltage", 19 GND (power) "Analog Ground.Connect to the system ground for dual supply operation or mid-supply for single supply operation. Gnd should be well bypassed in single supply applications.", 20 OSC OUT "Connects to crystal for self clocked operation", 21 Q2 (in) "Q programming inputs", 22 Q3 (in) "Q programming inputs", 23 F2 (in) "Clock/center frequency ratio (fclk/fo) programming inputs", 24 F0 (in) "Clock/center frequency ratio (fclk/fo) programming inputs", 25 Q4 (in) "Q programming inputs", 26 HPB (out) "Highpass/Notch/Allpass outputs", 27 BPB (out) "Bandpass outputs", 28 LPB (out) "Lowpass outputs"

## MAX263ACWI
designator U?
Switched Capacitor Filter, Pin Strap Programmable, 0 to 70 degC, 28-Pin SOIC (W28-5); Generic Part Number: MAX263; PartNumber: MAX263ACWI; Filter Sections: 2; Filter Type: Universal; DatasheetVersion: Rev. 4; PackageVersion: Rev. F, 10/2012; PackageReference: W28-5; PackageDescription: 28-Pin Small-Outline IC, Wide (0.3in) (W28-5), Body 17.9 x 7.5 mm, Pitch 1.27 mm; Supplier 1: Mouser; Supplier Part Number 1: N/A; Filter Characteristic: Programmable; Filter Class: Switched Cap; Order Per Filter Section: 2; Program Method: Pin Strap; Mounting Technology: Surface Mount; Code_JEDEC: MS013; ComponentLink1Description: Manufacturer URL; ComponentLink1URL: http://www.maximintegrated.com/; ComponentLink2Description: Datasheet; ComponentLink2URL: http://datasheets.maximintegrated.com/en/ds/MAX263-MAX268.pdf; ComponentLink3Description: Package Specification; ComponentLink3URL: http://pdfserv.maximintegrated.com/package_dwgs/21-0042.PDF
footprint MAXM-W28-5_N (SOIC, 28-Leads, Body 17.9x7.5mm, Pitch 1.27mm, IPC Medium Density)
footprint MAXM-W28-5_L (SOIC, 28-Leads, Body 17.9x7.5mm, Pitch 1.27mm, IPC High Density)
footprint MAXM-W28-5_M (SOIC, 28-Leads, Body 17.9x7.5mm, Pitch 1.27mm, IPC Low Density)
pins: 1 INB (in) "Filter inputs", 2 LPA (out) "Lowpass outputs", 3 BPA (out) "Bandpass outputs", 4 HPA (out) "Highpass/Notch/Allpass outputs", 5 INA (in) "Filter inputs", 6 Q5 (in) "Q programming inputs", 7 M1 (in) "Mode select inputs", 8 M0 (in) "Mode select inputs", 9 Q6 (in) "Q programming inputs", 10 V+ (power) "Positive supply voltage", 11 F4 (in) "Clock/center frequency ratio (fclk/fo) programming inputs", 12 F3 (in) "Clock/center frequency ratio (fclk/fo) programming inputs", 13 CLKA "Input to the oscillator and clock input to section A.This clock is internally divided by 2.", 14 CLKB "Clock input to filter B. This clock is internally divided by 2.", 15 Q0 (in) "Q programming inputs", 16 Q1 (in) "Q programming inputs", 17 F1 (in) "Clock/center frequency ratio (fclk/fo) programming inputs", 18 V- (power) "Negative supply voltage", 19 GND (power) "Analog Ground.Connect to the system ground for dual supply operation or mid-supply for single supply operation. Gnd should be well bypassed in single supply applications.", 20 OSC OUT "Connects to crystal for self clocked operation", 21 Q2 (in) "Q programming inputs", 22 Q3 (in) "Q programming inputs", 23 F2 (in) "Clock/center frequency ratio (fclk/fo) programming inputs", 24 F0 (in) "Clock/center frequency ratio (fclk/fo) programming inputs", 25 Q4 (in) "Q programming inputs", 26 HPB (out) "Highpass/Notch/Allpass outputs", 27 BPB (out) "Bandpass outputs", 28 LPB (out) "Lowpass outputs"

## MAX263ACWI+
designator U?
Switched Capacitor Filter, Pin Strap Programmable, 0 to 70 degC, 28-Pin SOIC (W28+5), Pb-Free; Generic Part Number: MAX263; PartNumber: MAX263ACWI+; Filter Sections: 2; Filter Type: Universal; DatasheetVersion: Rev. 4; PackageVersion: Rev. F, 10/2012; PackageReference: W28+5; PackageDescription: 28-Pin Small-Outline IC, Wide (0.3in) (W28+5), Body 17.9 x 7.5 mm, Pitch 1.27 mm; Supplier 1: Mouser; Supplier Part Number 1: N/A; Filter Characteristic: Programmable; Filter Class: Switched Cap; Order Per Filter Section: 2; Program Method: Pin Strap; RoHS: Pb-Free; Mounting Technology: Surface Mount; Code_JEDEC: MS013; ComponentLink1Description: Manufacturer URL; ComponentLink1URL: http://www.maximintegrated.com/; ComponentLink2Description: Datasheet; ComponentLink2URL: http://datasheets.maximintegrated.com/en/ds/MAX263-MAX268.pdf; ComponentLink3Description: Package Specification; ComponentLink3URL: http://pdfserv.maximintegrated.com/package_dwgs/21-0042.PDF
footprint MAXM-W28+5_N (SOIC, 28-Leads, Body 17.9x7.5mm, Pitch 1.27mm, IPC Medium Density)
footprint MAXM-W28+5_L (SOIC, 28-Leads, Body 17.9x7.5mm, Pitch 1.27mm, IPC High Density)
footprint MAXM-W28+5_M (SOIC, 28-Leads, Body 17.9x7.5mm, Pitch 1.27mm, IPC Low Density)
pins: 1 INB (in) "Filter inputs", 2 LPA (out) "Lowpass outputs", 3 BPA (out) "Bandpass outputs", 4 HPA (out) "Highpass/Notch/Allpass outputs", 5 INA (in) "Filter inputs", 6 Q5 (in) "Q programming inputs", 7 M1 (in) "Mode select inputs", 8 M0 (in) "Mode select inputs", 9 Q6 (in) "Q programming inputs", 10 V+ (power) "Positive supply voltage", 11 F4 (in) "Clock/center frequency ratio (fclk/fo) programming inputs", 12 F3 (in) "Clock/center frequency ratio (fclk/fo) programming inputs", 13 CLKA "Input to the oscillator and clock input to section A.This clock is internally divided by 2.", 14 CLKB "Clock input to filter B. This clock is internally divided by 2.", 15 Q0 (in) "Q programming inputs", 16 Q1 (in) "Q programming inputs", 17 F1 (in) "Clock/center frequency ratio (fclk/fo) programming inputs", 18 V- (power) "Negative supply voltage", 19 GND (power) "Analog Ground.Connect to the system ground for dual supply operation or mid-supply for single supply operation. Gnd should be well bypassed in single supply applications.", 20 OSC OUT "Connects to crystal for self clocked operation", 21 Q2 (in) "Q programming inputs", 22 Q3 (in) "Q programming inputs", 23 F2 (in) "Clock/center frequency ratio (fclk/fo) programming inputs", 24 F0 (in) "Clock/center frequency ratio (fclk/fo) programming inputs", 25 Q4 (in) "Q programming inputs", 26 HPB (out) "Highpass/Notch/Allpass outputs", 27 BPB (out) "Bandpass outputs", 28 LPB (out) "Lowpass outputs"

## MAX263ACWI+T
designator U?
Switched Capacitor Filter, Pin Strap Programmable, 0 to 70 degC, 28-Pin SOIC (W28+5), Pb-Free, Tape and Reel; Generic Part Number: MAX263; PartNumber: MAX263ACWI+T; Filter Sections: 2; Filter Type: Universal; DatasheetVersion: Rev. 4; PackageVersion: Rev. F, 10/2012; PackageReference: W28+5; PackageDescription: 28-Pin Small-Outline IC, Wide (0.3in) (W28+5), Body 17.9 x 7.5 mm, Pitch 1.27 mm; Supplier 1: Mouser; Supplier Part Number 1: N/A; Filter Characteristic: Programmable; Filter Class: Switched Cap; Order Per Filter Section: 2; Packing: Tape and Reel; Program Method: Pin Strap; RoHS: Pb-Free; Mounting Technology: Surface Mount; Code_JEDEC: MS013; ComponentLink1Description: Manufacturer URL; ComponentLink1URL: http://www.maximintegrated.com/; ComponentLink2Description: Datasheet; ComponentLink2URL: http://datasheets.maximintegrated.com/en/ds/MAX263-MAX268.pdf; ComponentLink3Description: Package Specification; ComponentLink3URL: http://pdfserv.maximintegrated.com/package_dwgs/21-0042.PDF
footprint MAXM-W28+5_N (SOIC, 28-Leads, Body 17.9x7.5mm, Pitch 1.27mm, IPC Medium Density)
footprint MAXM-W28+5_L (SOIC, 28-Leads, Body 17.9x7.5mm, Pitch 1.27mm, IPC High Density)
footprint MAXM-W28+5_M (SOIC, 28-Leads, Body 17.9x7.5mm, Pitch 1.27mm, IPC Low Density)
pins: 1 INB (in) "Filter inputs", 2 LPA (out) "Lowpass outputs", 3 BPA (out) "Bandpass outputs", 4 HPA (out) "Highpass/Notch/Allpass outputs", 5 INA (in) "Filter inputs", 6 Q5 (in) "Q programming inputs", 7 M1 (in) "Mode select inputs", 8 M0 (in) "Mode select inputs", 9 Q6 (in) "Q programming inputs", 10 V+ (power) "Positive supply voltage", 11 F4 (in) "Clock/center frequency ratio (fclk/fo) programming inputs", 12 F3 (in) "Clock/center frequency ratio (fclk/fo) programming inputs", 13 CLKA "Input to the oscillator and clock input to section A.This clock is internally divided by 2.", 14 CLKB "Clock input to filter B. This clock is internally divided by 2.", 15 Q0 (in) "Q programming inputs", 16 Q1 (in) "Q programming inputs", 17 F1 (in) "Clock/center frequency ratio (fclk/fo) programming inputs", 18 V- (power) "Negative supply voltage", 19 GND (power) "Analog Ground.Connect to the system ground for dual supply operation or mid-supply for single supply operation. Gnd should be well bypassed in single supply applications.", 20 OSC OUT "Connects to crystal for self clocked operation", 21 Q2 (in) "Q programming inputs", 22 Q3 (in) "Q programming inputs", 23 F2 (in) "Clock/center frequency ratio (fclk/fo) programming inputs", 24 F0 (in) "Clock/center frequency ratio (fclk/fo) programming inputs", 25 Q4 (in) "Q programming inputs", 26 HPB (out) "Highpass/Notch/Allpass outputs", 27 BPB (out) "Bandpass outputs", 28 LPB (out) "Lowpass outputs"

## MAX263ACWI-T
designator U?
Switched Capacitor Filter, Pin Strap Programmable, 0 to 70 degC, 28-Pin SOIC (W28-5), Tape and Reel; Generic Part Number: MAX263; PartNumber: MAX263ACWI-T; Filter Sections: 2; Filter Type: Universal; DatasheetVersion: Rev. 4; PackageVersion: Rev. F, 10/2012; PackageReference: W28-5; PackageDescription: 28-Pin Small-Outline IC, Wide (0.3in) (W28-5), Body 17.9 x 7.5 mm, Pitch 1.27 mm; Supplier 1: Mouser; Supplier Part Number 1: N/A; Filter Characteristic: Programmable; Filter Class: Switched Cap; Order Per Filter Section: 2; Packing: Tape and Reel; Program Method: Pin Strap; Mounting Technology: Surface Mount; Code_JEDEC: MS013; ComponentLink1Description: Manufacturer URL; ComponentLink1URL: http://www.maximintegrated.com/; ComponentLink2Description: Datasheet; ComponentLink2URL: http://datasheets.maximintegrated.com/en/ds/MAX263-MAX268.pdf; ComponentLink3Description: Package Specification; ComponentLink3URL: http://pdfserv.maximintegrated.com/package_dwgs/21-0042.PDF
footprint MAXM-W28-5_N (SOIC, 28-Leads, Body 17.9x7.5mm, Pitch 1.27mm, IPC Medium Density)
footprint MAXM-W28-5_L (SOIC, 28-Leads, Body 17.9x7.5mm, Pitch 1.27mm, IPC High Density)
footprint MAXM-W28-5_M (SOIC, 28-Leads, Body 17.9x7.5mm, Pitch 1.27mm, IPC Low Density)
pins: 1 INB (in) "Filter inputs", 2 LPA (out) "Lowpass outputs", 3 BPA (out) "Bandpass outputs", 4 HPA (out) "Highpass/Notch/Allpass outputs", 5 INA (in) "Filter inputs", 6 Q5 (in) "Q programming inputs", 7 M1 (in) "Mode select inputs", 8 M0 (in) "Mode select inputs", 9 Q6 (in) "Q programming inputs", 10 V+ (power) "Positive supply voltage", 11 F4 (in) "Clock/center frequency ratio (fclk/fo) programming inputs", 12 F3 (in) "Clock/center frequency ratio (fclk/fo) programming inputs", 13 CLKA "Input to the oscillator and clock input to section A.This clock is internally divided by 2.", 14 CLKB "Clock input to filter B. This clock is internally divided by 2.", 15 Q0 (in) "Q programming inputs", 16 Q1 (in) "Q programming inputs", 17 F1 (in) "Clock/center frequency ratio (fclk/fo) programming inputs", 18 V- (power) "Negative supply voltage", 19 GND (power) "Analog Ground.Connect to the system ground for dual supply operation or mid-supply for single supply operation. Gnd should be well bypassed in single supply applications.", 20 OSC OUT "Connects to crystal for self clocked operation", 21 Q2 (in) "Q programming inputs", 22 Q3 (in) "Q programming inputs", 23 F2 (in) "Clock/center frequency ratio (fclk/fo) programming inputs", 24 F0 (in) "Clock/center frequency ratio (fclk/fo) programming inputs", 25 Q4 (in) "Q programming inputs", 26 HPB (out) "Highpass/Notch/Allpass outputs", 27 BPB (out) "Bandpass outputs", 28 LPB (out) "Lowpass outputs"

## MAX263AEPI
designator U?
Switched Capacitor Filter, Pin Strap Programmable, -40 to 85 degC, 28-Pin DIP (P28-5); Generic Part Number: MAX263; PartNumber: MAX263AEPI; Filter Sections: 2; Filter Type: Universal; DatasheetVersion: Rev. 4; PackageVersion: Rev. D, 04/2011; PackageReference: P28-5; PackageDescription: 28-Pin Plastic Dual-In-Line, Wide (0.6in) (P28-5), Body 36.83 x 13.975 mm, Pitch 2.54 mm; Supplier 1: Mouser; Supplier Part Number 1: N/A; Filter Characteristic: Programmable; Filter Class: Switched Cap; Order Per Filter Section: 2; Program Method: Pin Strap; Mounting Technology: Through Hole; Code_JEDEC: MS011; ComponentLink1Description: Manufacturer URL; ComponentLink1URL: http://www.maximintegrated.com/; ComponentLink2Description: Datasheet; ComponentLink2URL: http://datasheets.maximintegrated.com/en/ds/MAX263-MAX268.pdf; ComponentLink3Description: Package Specification; ComponentLink3URL: http://pdfserv.maximintegrated.com/package_dwgs/21-0044.PDF
footprint MAXM-P28-5 (DIP, 28-Leads, Body 36.83x13.975mm, Pitch 2.54mm)
pins: 1 INB (in) "Filter inputs", 2 LPA (out) "Lowpass outputs", 3 BPA (out) "Bandpass outputs", 4 HPA (out) "Highpass/Notch/Allpass outputs", 5 INA (in) "Filter inputs", 6 Q5 (in) "Q programming inputs", 7 M1 (in) "Mode select inputs", 8 M0 (in) "Mode select inputs", 9 Q6 (in) "Q programming inputs", 10 V+ (power) "Positive supply voltage", 11 F4 (in) "Clock/center frequency ratio (fclk/fo) programming inputs", 12 F3 (in) "Clock/center frequency ratio (fclk/fo) programming inputs", 13 CLKA "Input to the oscillator and clock input to section A.This clock is internally divided by 2.", 14 CLKB "Clock input to filter B. This clock is internally divided by 2.", 15 Q0 (in) "Q programming inputs", 16 Q1 (in) "Q programming inputs", 17 F1 (in) "Clock/center frequency ratio (fclk/fo) programming inputs", 18 V- (power) "Negative supply voltage", 19 GND (power) "Analog Ground.Connect to the system ground for dual supply operation or mid-supply for single supply operation. Gnd should be well bypassed in single supply applications.", 20 OSC OUT "Connects to crystal for self clocked operation", 21 Q2 (in) "Q programming inputs", 22 Q3 (in) "Q programming inputs", 23 F2 (in) "Clock/center frequency ratio (fclk/fo) programming inputs", 24 F0 (in) "Clock/center frequency ratio (fclk/fo) programming inputs", 25 Q4 (in) "Q programming inputs", 26 HPB (out) "Highpass/Notch/Allpass outputs", 27 BPB (out) "Bandpass outputs", 28 LPB (out) "Lowpass outputs"